# Altium footprint library harwin_holder_batt_cr2032_s8421-45r.PcbLib: 1 footprints
Each footprint in its own frame and in the unit in brackets; x right, y up, seen from the top. Pads: shape width x height; smd on the part's side, far side on the other; paste and mask are expansions set on the pad; w line width, h text height; cw(c..) or ccw(c..) is an arc to the next point about the centre after c.
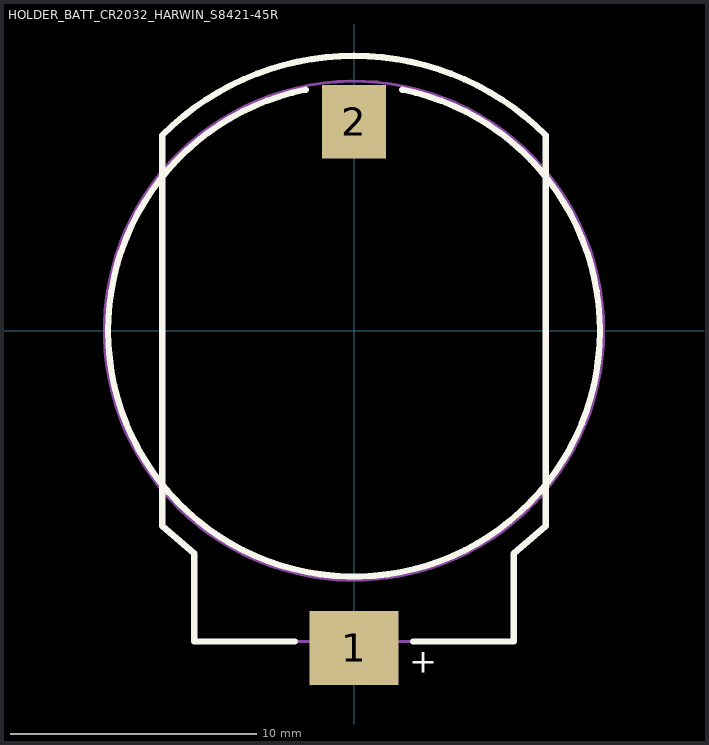
[diagram p0: the footprint, top view; thin cyan lines are the x and y axes]

## HOLDER_BATT_CR2032_HARWIN_S8421-45R [mm]
pads (2):
  rect 3.6x3 smd: 1(0,-12.9)
  rect 2.6x3 smd: 2(0,8.5)
Top Overlay:
  lines w0.254: -7.8,7.94 -7.8,-7.94 -6.5,-9.06 -6.5,-12.64 -2.4,-12.64 ; -7.8,7.95 cw(c0,0.15) 7.8,7.95 ; -1.961,9.806 ccw(c0,0) 1.961,9.806 ; 2.4,-12.64 6.5,-12.64 6.5,-9.06 7.8,-7.94 7.8,7.94
  text "+" at 2.254,-13.913 h1
Top 3D Body (Mech13):
  circle w0.127: c0,0 r10.15
  lines w0.127: -7.8,7.94 -7.8,-7.94 -6.5,-9.06 -6.5,-12.64 6.5,-12.64 6.5,-9.06 7.8,-7.94 7.8,7.94 ; -7.8,7.95 cw(c0,0.15) 7.8,7.95
3D body "s8421-45r_asm.stp": height 5.3, standoff 0, extent -7.85,-13.5 7.85,11.238